# Altium footprint library MicroUSB_ConnReceptacle_Hirose_ZX62-B-5PA(11)_pcb.PcbLib: 1 footprints
Each footprint in its own frame and in the unit in brackets; x right, y up, seen from the top. Pads: shape width x height; smd on the part's side, far side on the other; paste and mask are expansions set on the pad; w line width, h text height; cw(c..) or ccw(c..) is an arc to the next point about the centre after c.
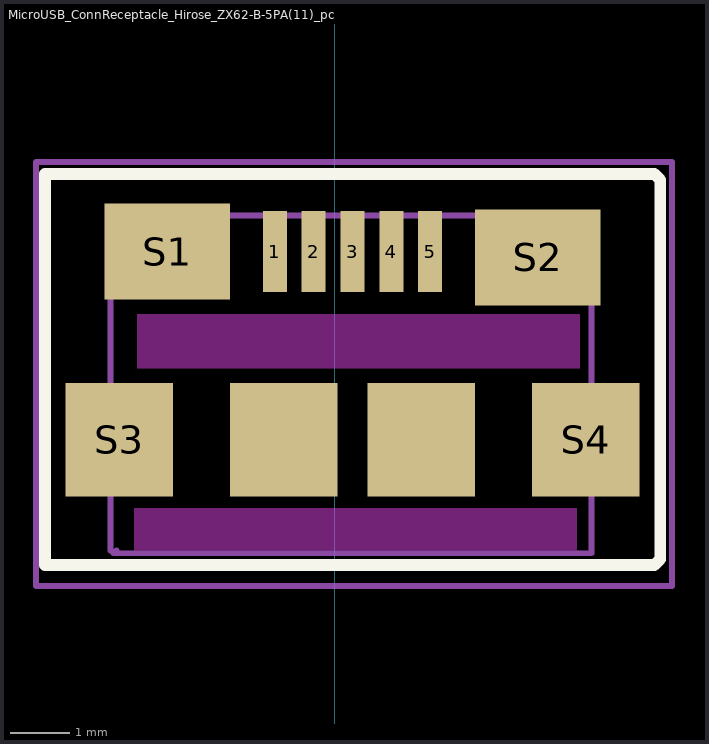
[diagram p0: the footprint, top view; thin cyan lines are the x and y axes]

## MicroUSB_ConnReceptacle_Hirose_ZX62-B-5PA(11)_pcb [mm]
height 2.8
pads (11):
  rect 0.4x1.35 smd: 1(-1,8.1) 2(-0.35,8.1) 3(0.3,8.1) 4(0.95,8.1) 5(1.6,8.1)
  rect 2.1x1.6 smd: S1(-2.8,8.1) S2(3.4,8)
  rect 1.8x1.9 smd: S3(-3.6,4.95) S4(4.2,4.95) ""(-0.85,4.95) ""(1.45,4.95)
Top Overlay:
  lines w0.2: -4.85,2.85 5.35,2.85 5.45,2.95 5.45,9.3 5.35,9.4 -4.85,9.4 -4.85,2.85
Keep-Out Layer:
  region: 4.1,6.15 -3.3,6.15 -3.3,7.05 4.1,7.05
  region: 4.05,3.1 -3.35,3.1 -3.35,3.8 4.05,3.8
Mechanical 13:
  lines w0.1: -3.75,3.1 -3.75,8.7 4.3,8.7 4.3,3.15 4.3,3.05 -3.7,3.05 -3.65,3.1
Mechanical 15:
  lines w0.1: -5,2.5 -5,9.6 5.65,9.6 5.65,2.5 -5,2.5
3D body: height 2.8, standoff 0, extent -3.7,3.05 4.3,8.7